# EAGLE library part TPL5010 (library Clock)
TPL5010 - Nano-power System Timer with Watchdog Function Datasheet <http://www.ti.com/lit/ds/symlink/tpl5010.pdf>
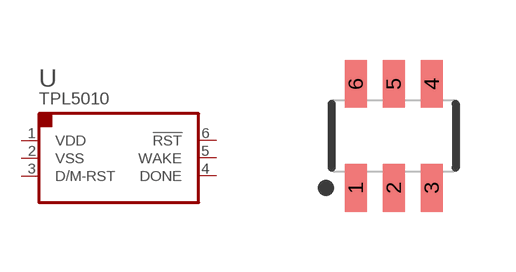
[diagram p1: symbol with the pads of SOT-23-6; footprint SOT-23-6]

Designator prefix U

## TPL5010DDC (DATASHEET: https://goo.gl/YTsn1G; DESC: IC TIMER W/WATCHDOG 6SOT; STATUS: Active; TEMP: -40°C ~ 105°C; VSUP: 1.8V ~ 5V), TPL5010QDDC (DATASHEET: https://goo.gl/YTsn1G; DESC: IC TIMER W/WATCHDOG 6SOT; FEAT: AEC-Q100; STATUS: Active; TEMP: -40°C ~ 125°C; VSUP: 1.8V ~ 5V)  [SOT-23-6]
1  VDD  pwr
2  VSS  pwr
3  D/M-RST  in
4  DONE  in
5  WAKE  out
6  !RST  out

## Footprint SOT-23-6 (pad centres in mm)
SOT23-6
smd 0.55 x 1.2: 1 -0.95,-1.3; 2 0,-1.3; 3 0.95,-1.3; 4 0.95,1.3; 5 0,1.3; 6 -0.95,1.3